# EAGLE library part EDGE_20P (library open-bldc)
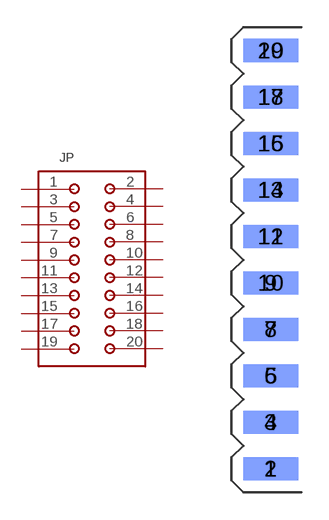
[diagram p4: symbol with the pads of EDGE_PINS_20; footprint EDGE_PINS_20]

Designator prefix JP

## EDGE_20P  [EDGE_PINS_20]
1  P$1
2  P$2
3  P$3
4  P$4
5  P$5
6  P$6
7  P$7
8  P$8
9  P$9
10  P$10
11  P$11
12  P$12
13  P$13
14  P$14
15  P$15
16  P$16
17  P$17
18  P$18
19  P$19
20  P$20

## Footprint EDGE_PINS_20 (pad centres in mm)
smd 3 x 1.27: 1 -1.665,1.275; 3 -1.665,3.815; 5 -1.665,6.355; 7 -1.665,8.895; 9 -1.665,11.435; 11 -1.665,13.975; 13 -1.665,16.515; 15 -1.665,19.055; 17 -1.665,21.595; 19 -1.665,24.135
smd 3 x 1.27 bottom: 2 -1.665,1.275; 4 -1.665,3.815; 6 -1.665,6.355; 8 -1.665,8.895; 10 -1.665,11.435; 12 -1.665,13.975; 14 -1.665,16.515; 16 -1.665,19.055; 18 -1.665,21.595; 20 -1.665,24.135